# Altium footprint library TE_173866-1.PcbLib: 1 footprints
Each footprint in its own frame and in the unit in brackets; x right, y up, seen from the top. Pads: shape width x height; smd on the part's side, far side on the other; paste and mask are expansions set on the pad; w line width, h text height; cw(c..) or ccw(c..) is an arc to the next point about the centre after c.
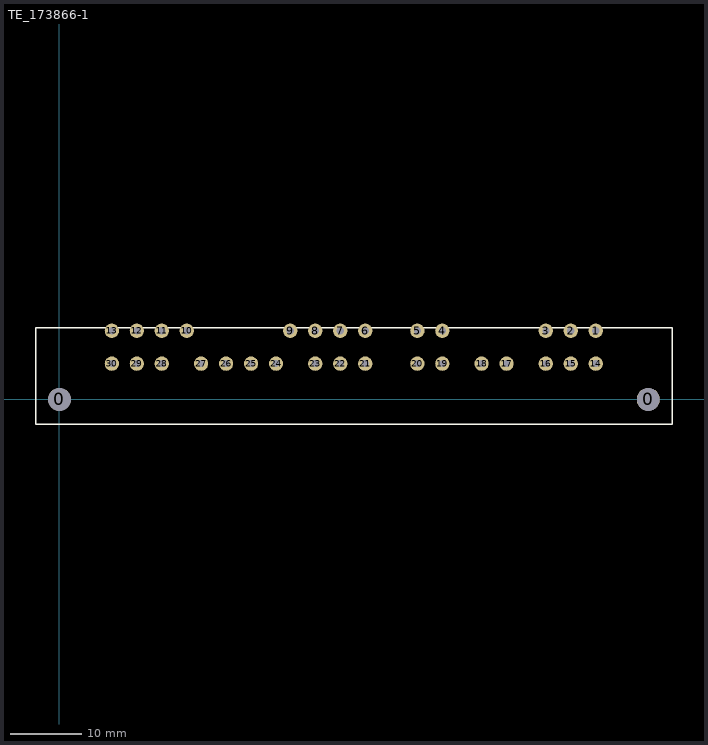
[diagram p0: the footprint, top view; thin cyan lines are the x and y axes]

## TE_173866-1 [mm] "070 MULTILOCK CAP ASSY 30P"
height 15.8
pads (32):
  round 3.2 hole 3.2: 0(0,0) 0(82.5,0)
  round 2 hole 1: 1(75.15,9.6) 2(71.65,9.6) 3(68.15,9.6) 4(53.65,9.6) 5(50.15,9.6) 6(42.85,9.6) 7(39.35,9.6) 8(35.85,9.6) 9(32.35,9.6) 10(17.85,9.6) 11(14.35,9.6) 12(10.85,9.6) 13(7.35,9.6) 14(75.15,5) 15(71.65,5) 16(68.15,5) 17(62.65,5) 18(59.15,5) 19(53.65,5) 20(50.15,5) 21(42.85,5) 22(39.35,5) 23(35.85,5) 24(30.35,5) 25(26.85,5) 26(23.35,5) 27(19.85,5) 28(14.35,5) 29(10.85,5) 30(7.35,5)
Top Overlay:
  lines w0.254: -3.302,-3.5 -3.302,10.033 85.852,10.033 85.852,-3.5 -3.302,-3.5
3D body "TE_173866-1-h3-3D.stp": height 15.9, standoff -3.9, extent -3.309,-14.911 85.791,10.009